# EAGLE library part TPS565208DDCR (library custom)
4.5V to 17V, 5A Synchronous Step-Down Voltage Regulator in SOT23 6-SOT-23-THIN -40 to 125
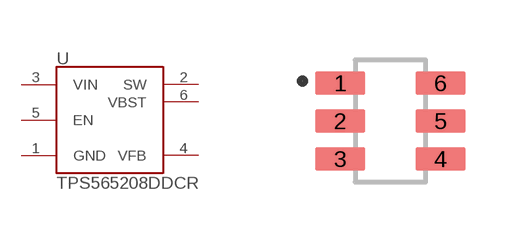
[diagram p3: symbol with the pads of SOT95P280X110-6N; footprint SOT95P280X110-6N]

Designator prefix U

## TPS565208DDCR (AVAILABILITY: Good; DESCRIPTION: 4.5V to 17V, 5A Synchronous Step-Down Voltage Regulator in SOT23 6-SOT-23-THIN -40 to 125; MF: Texas Instruments; MP: TPS565208DDCR; PACKAGE: SOT-23 Texas Instruments; PRICE: 1.41 USD)  [SOT95P280X110-6N]
1  GND  pwr
2  SW  out
3  VIN  in
4  VFB  in
5  EN  in
6  VBST  out

## Footprint SOT95P280X110-6N (pad centres in mm)
smd 1.25 x 0.59: 1 -1.255,0.95; 2 -1.255,0; 3 -1.255,-0.95; 4 1.255,-0.95; 5 1.255,0; 6 1.255,0.95